# EAGLE library part ZXMHC3F381N8TC (library MMHbridge)
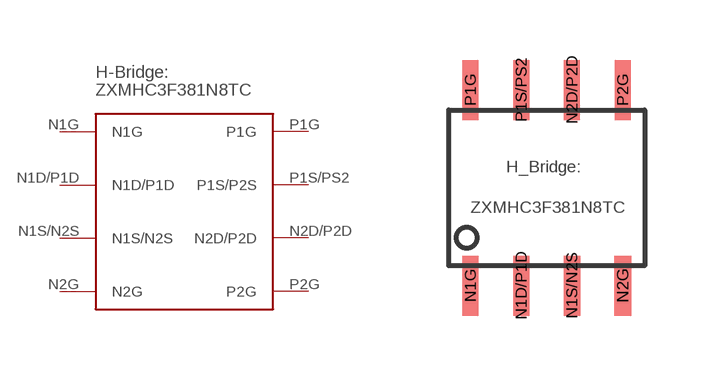
[diagram p0: symbol with the pads of 8-SOIC; footprint 8-SOIC]

Designator prefix -

## ZXMHC3F381N8TC  [8-SOIC]
N1D/P1D  N1D/P1D
N1G  N1G
N1S/N2S  N1S/N2S
N2D/P2D  N2D/P2D
N2G  N2G
P1G  P1G
P1S/PS2  P1S/P2S
P2G  P2G

## Footprint 8-SOIC (pad centres in mm)
smd 0.4 x 1.5: N1D/P1D -0.635,-2.45; N1G -1.905,-2.45; N2D/P2D 0.635,2.45; P1G -1.905,2.45; P1S/PS2 -0.635,2.45; P2G 1.905,2.45
smd 0.42 x 1.5: N1S/N2S 0.635,-2.45; N2G 1.905,-2.45